# EAGLE library part AK4112 (library akm)
Digital Audio Receiver (DIR) High Feature, 24-Bit, 96 kHz
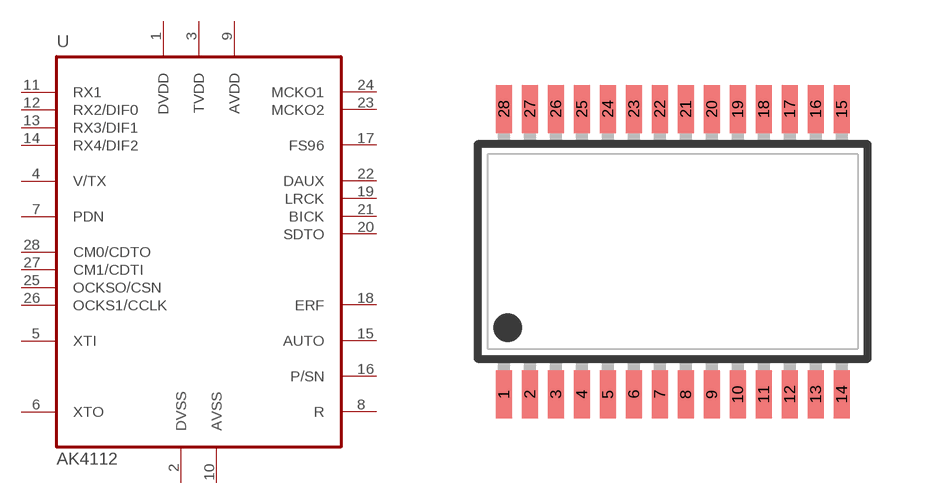
[diagram p10: symbol with the pads of VSOP28; footprint VSOP28]

Designator prefix U

## AK4112  [VSOP28]
1  DVDD  pwr
2  DVSS  pwr
3  TVDD  pwr
4  V/TX  out
5  XTI  in
6  XTO  out
7  PDN  in
8  R  pas
9  AVDD  pwr
10  AVSS  pwr
11  RX1  in
12  RX2/DIF0  in
13  RX3/DIF1  in
14  RX4/DIF2  in
15  AUTO
16  P/SN  in
17  FS96
18  ERF
19  LRCK
20  SDTO  out
21  BICK
22  DAUX
23  MCKO2  out
24  MCKO1  out
25  OCKSO/CSN
26  OCKS1/CCLK
27  CM1/CDTI
28  CM0/CDTO

## Footprint VSOP28 (pad centres in mm)
VSOP28 9.8 x 5.6 mm, pitch .65 mm
smd 0.4 x 1.2: 1 -4.225,-3.57; 2 -3.575,-3.57; 3 -2.925,-3.57; 4 -2.275,-3.57; 5 -1.625,-3.57; 6 -0.975,-3.57; 7 -0.325,-3.57; 8 0.325,-3.57; 9 0.975,-3.57; 10 1.625,-3.57; 11 2.275,-3.57; 12 2.925,-3.57; 13 3.575,-3.57; 14 4.225,-3.57; 15 4.225,3.57; 16 3.575,3.57; 17 2.925,3.57; 18 2.275,3.57; 19 1.625,3.57; 20 0.975,3.57; 21 0.325,3.57; 22 -0.325,3.57; 23 -0.975,3.57; 24 -1.625,3.57; 25 -2.275,3.57; 26 -2.925,3.57; 27 -3.575,3.57; 28 -4.225,3.57